# EAGLE library part POWER-MONITOR-MODULE (library Power-Monitor-Module)
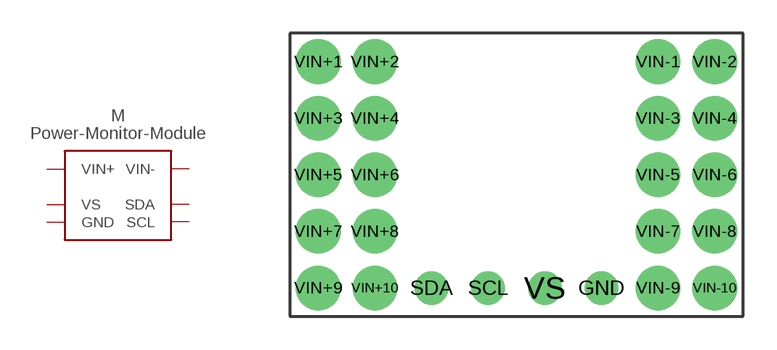
[diagram p0: symbol with the pads of POWER-MONITOR-MODULE; footprint POWER-MONITOR-MODULE]

Designator prefix M

## POWER-MONITOR-MODULE  [POWER-MONITOR-MODULE]
GND  GND  pwr
SCL  SCL
SDA  SDA
VIN+1  VIN+  pwr
VIN+2  VIN+  pwr
VIN+3  VIN+  pwr
VIN+4  VIN+  pwr
VIN+5  VIN+  pwr
VIN+6  VIN+  pwr
VIN+7  VIN+  pwr
VIN+8  VIN+  pwr
VIN+9  VIN+  pwr
VIN+10  VIN+  pwr
VIN-1  VIN-  pwr
VIN-2  VIN-  pwr
VIN-3  VIN-  pwr
VIN-4  VIN-  pwr
VIN-5  VIN-  pwr
VIN-6  VIN-  pwr
VIN-7  VIN-  pwr
VIN-8  VIN-  pwr
VIN-9  VIN-  pwr
VIN-10  VIN-  pwr
VS  VS  pwr

## Footprint POWER-MONITOR-MODULE (pad centres in mm)
drill 1: GND 13.97,-11.43; SCL 8.89,-11.43; SDA 6.35,-11.43; VS 11.43,-11.43
drill 1 pad 2: VIN+1 1.27,-1.27; VIN+2 3.81,-1.27; VIN+3 1.27,-3.81; VIN+4 3.81,-3.81; VIN+5 1.27,-6.35; VIN+6 3.81,-6.35; VIN+7 1.27,-8.89; VIN+8 3.81,-8.89; VIN+9 1.27,-11.43; VIN+10 3.81,-11.43; VIN-1 16.51,-1.27; VIN-2 19.05,-1.27; VIN-3 16.51,-3.81; VIN-4 19.05,-3.81; VIN-5 16.51,-6.35; VIN-6 19.05,-6.35; VIN-7 16.51,-8.89; VIN-8 19.05,-8.89; VIN-9 16.51,-11.43; VIN-10 19.05,-11.43